# EAGLE library part A3979 (library RAMPS)
DMOS Stepper Motor Driver with Translator Auto generated by make-symbol-device-package-bsdl.ulp Rev. 32 Source: http://www.allegromicro.com/en/Products/Part_Numbers/3982/3982.pdf
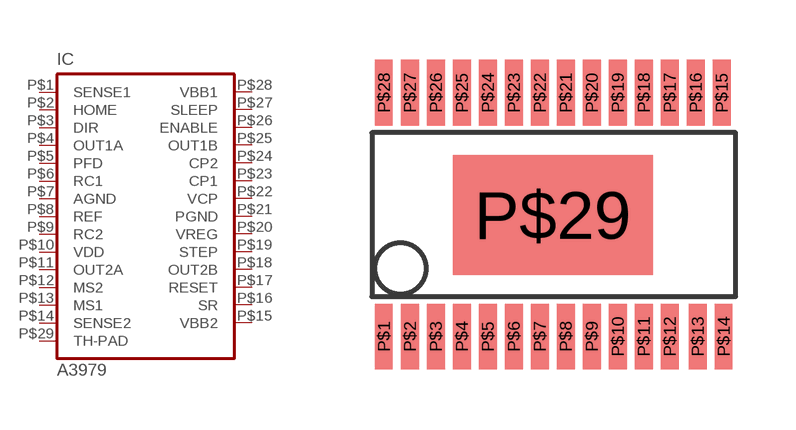
[diagram p5: symbol with the pads of TSSOP28; footprint TSSOP28]

Designator prefix IC

## A3979  [TSSOP28]
P$1  SENSE1  in
P$2  HOME  out
P$3  DIR  in
P$4  OUT1A  out
P$5  PFD  in
P$6  RC1  in
P$7  AGND  pwr
P$8  REF  in
P$9  RC2
P$10  VDD  pwr
P$11  OUT2A  out
P$12  MS2  in
P$13  MS1  in
P$14  SENSE2  in
P$15  VBB2  pwr
P$16  SR  in
P$17  RESET  in
P$18  OUT2B  out
P$19  STEP  in
P$20  VREG  pas
P$21  PGND  pwr
P$22  VCP  pas
P$23  CP1  pas
P$24  CP2  pas
P$25  OUT1B  out
P$26  ENABLE  in
P$27  SLEEP  in
P$28  VBB1  pwr
P$29  TH-PAD  pwr

## Footprint TSSOP28 (pad centres in mm)
smd 0.45 x 1.65: P$1 -4.23,0.83; P$2 -3.58,0.83; P$3 -2.93,0.83; P$4 -2.28,0.83; P$5 -1.63,0.83; P$6 -0.98,0.83; P$7 -0.33,0.83; P$8 0.32,0.83; P$9 0.97,0.83; P$10 1.62,0.83; P$11 2.27,0.83; P$12 2.92,0.83; P$13 3.62,0.83; P$14 4.27,0.83; P$15 4.22,6.93; P$16 3.57,6.93; P$17 2.92,6.93; P$18 2.27,6.93; P$19 1.62,6.93; P$20 0.97,6.93; P$21 0.32,6.93; P$22 -0.33,6.93; P$23 -0.98,6.93; P$24 -1.63,6.93; P$25 -2.28,6.93; P$26 -2.93,6.93; P$27 -3.58,6.93; P$28 -4.23,6.93
smd 5 x 3: P$29 0,3.875